# Altium schematic symbol library jlcpcb_2025_04_ferrites_extended_0805.schlib: 546 symbols (part 1 of 10)
Pins are listed as number, name and electrical type; pins without a type are passive.

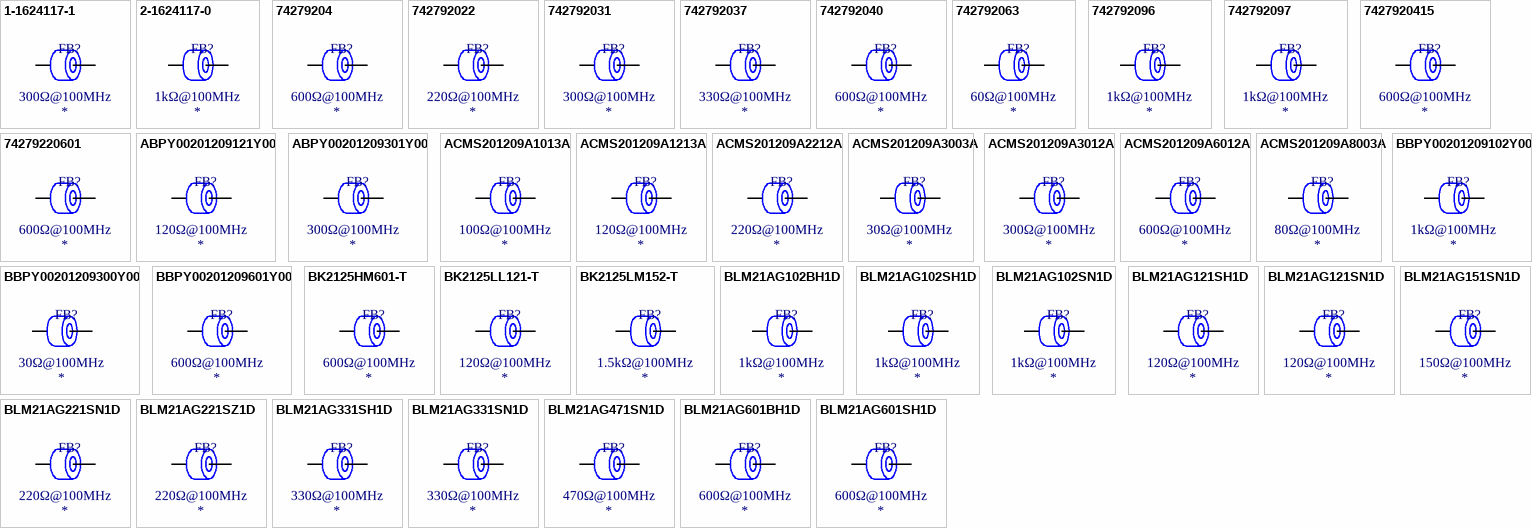
[diagram p0: symbols 1-1624117-1 to BLM21AG601SH1D]

## 1-1624117-1
designator FB?  Impedance @ Frequency: 300Ω@100MHz
Ferrite, 300Ω@100MHz, ±25%, 500mΩ, 250mA, SMD 0805; Manufacturer: TE Connectivity; Manufacturer Part Number: 1-1624117-1; Package Size: 0805; JLCPCB Basic Part: No; JLCPCB Part Number: C306293; Supplier 1: LCSC; Category: Ferrite Beads; Supplier Part Number 1: C306293; Tolerance: ±25%; Rated Current: 250mA; DC Resistance: 500mΩ; RoHS: Yes; ComponentLink1Description: Datasheet; ComponentLink1URL: https://wmsc.lcsc.com/wmsc/upload/file/pdf/v2/lcsc/2304140030_TE-Connectivity-1-1624117-1_C306293.pdf; ComponentLink2Description: JLCPCB Part URL; ComponentLink2URL: https://jlcpcb.com/partdetail/C306293; ComponentLink3Description: LCSC Part URL; ComponentLink3URL: https://lcsc.com/product-detail/Ferrite-Beads_TE-Connectivity-TE-Connectivity-1-1624117-1_C306293.html
footprint FB-0805 (0805 (2012M) Ferrite)
pins: 1, 2

## 2-1624117-0
designator FB?  Impedance @ Frequency: 1kΩ@100MHz
Ferrite, 1kΩ@100MHz, ±25%, 300mΩ, 350mA, SMD 0805; Manufacturer: TE Connectivity; Manufacturer Part Number: 2-1624117-0; Package Size: 0805; JLCPCB Basic Part: No; JLCPCB Part Number: C306134; Supplier 1: LCSC; Category: Ferrite Beads; Supplier Part Number 1: C306134; Tolerance: ±25%; Rated Current: 350mA; DC Resistance: 300mΩ; RoHS: Yes; ComponentLink1Description: Datasheet; ComponentLink1URL: https://wmsc.lcsc.com/wmsc/upload/file/pdf/v2/lcsc/1811071521_TE-Connectivity-2-1624117-0_C306134.pdf; ComponentLink2Description: JLCPCB Part URL; ComponentLink2URL: https://jlcpcb.com/partdetail/C306134; ComponentLink3Description: LCSC Part URL; ComponentLink3URL: https://lcsc.com/product-detail/Ferrite-Beads_TE-Connectivity-TE-Connectivity-2-1624117-0_C306134.html
footprint FB-0805 (0805 (2012M) Ferrite)
pins: 1, 2

## 74279204
designator FB?  Impedance @ Frequency: 600Ω@100MHz
Ferrite, 600Ω@100MHz, ±25%, 350mΩ, 1.5A, SMD 0805; Manufacturer: Wurth Elektronik; Manufacturer Part Number: 74279204; Package Size: 0805; JLCPCB Basic Part: No; JLCPCB Part Number: C2661772; Supplier 1: LCSC; Category: Ferrite Beads; Supplier Part Number 1: C2661772; Tolerance: ±25%; Rated Current: 1.5A; DC Resistance: 350mΩ; RoHS: Yes; ComponentLink1Description: Datasheet; ComponentLink1URL: https://wmsc.lcsc.com/wmsc/upload/file/pdf/v2/lcsc/2106071736_Wurth-Elektronik-74279204_C2661772.pdf; ComponentLink2Description: JLCPCB Part URL; ComponentLink2URL: https://jlcpcb.com/partdetail/C2661772; ComponentLink3Description: LCSC Part URL; ComponentLink3URL: https://lcsc.com/product-detail/Ferrite-Beads_Wurth-Elektronik-Wurth-Elektronik-74279204_C2661772.html
footprint FB-0805 (0805 (2012M) Ferrite)
pins: 1, 2

## 742792022
designator FB?  Impedance @ Frequency: 220Ω@100MHz
Ferrite, 220Ω@100MHz, ±25%, 50mΩ, 1.5A, SMD 0805; Manufacturer: Wurth Elektronik; Manufacturer Part Number: 742792022; Package Size: 0805; JLCPCB Basic Part: No; JLCPCB Part Number: C2661452; Supplier 1: LCSC; Category: Ferrite Beads; Supplier Part Number 1: C2661452; Tolerance: ±25%; Rated Current: 1.5A; DC Resistance: 50mΩ; RoHS: Yes; ComponentLink1Description: Datasheet; ComponentLink1URL: https://wmsc.lcsc.com/wmsc/upload/file/pdf/v2/lcsc/2106071807_Wurth-Elektronik-742792022_C2661452.pdf; ComponentLink2Description: JLCPCB Part URL; ComponentLink2URL: https://jlcpcb.com/partdetail/C2661452; ComponentLink3Description: LCSC Part URL; ComponentLink3URL: https://lcsc.com/product-detail/Ferrite-Beads_Wurth-Elektronik-Wurth-Elektronik-742792022_C2661452.html
footprint FB-0805 (0805 (2012M) Ferrite)
pins: 1, 2

## 742792031
designator FB?  Impedance @ Frequency: 300Ω@100MHz
Ferrite, 300Ω@100MHz, ±25%, 50mΩ, 3A, SMD 0805; Manufacturer: Wurth Elektronik; Manufacturer Part Number: 742792031; Package Size: 0805; JLCPCB Basic Part: No; JLCPCB Part Number: C2649313; Supplier 1: LCSC; Category: Ferrite Beads; Supplier Part Number 1: C2649313; Tolerance: ±25%; Rated Current: 3A; DC Resistance: 50mΩ; RoHS: Yes; ComponentLink1Description: Datasheet; ComponentLink1URL: https://wmsc.lcsc.com/wmsc/upload/file/pdf/v2/lcsc/2106080533_Wurth-Elektronik-742792031_C2649313.pdf; ComponentLink2Description: JLCPCB Part URL; ComponentLink2URL: https://jlcpcb.com/partdetail/C2649313; ComponentLink3Description: LCSC Part URL; ComponentLink3URL: https://lcsc.com/product-detail/Ferrite-Beads_Wurth-Elektronik-Wurth-Elektronik-742792031_C2649313.html
footprint FB-0805 (0805 (2012M) Ferrite)
pins: 1, 2

## 742792037
designator FB?  Impedance @ Frequency: 330Ω@100MHz
Ferrite, 330Ω@100MHz, ±25%, 80mΩ, 2A, SMD 0805; Manufacturer: Wurth Elektronik; Manufacturer Part Number: 742792037; Package Size: 0805; JLCPCB Basic Part: No; JLCPCB Part Number: C2661447; Supplier 1: LCSC; Category: Ferrite Beads; Supplier Part Number 1: C2661447; Tolerance: ±25%; Rated Current: 2A; DC Resistance: 80mΩ; RoHS: Yes; ComponentLink1Description: Datasheet; ComponentLink1URL: https://wmsc.lcsc.com/wmsc/upload/file/pdf/v2/lcsc/2106071807_Wurth-Elektronik-742792037_C2661447.pdf; ComponentLink2Description: JLCPCB Part URL; ComponentLink2URL: https://jlcpcb.com/partdetail/C2661447; ComponentLink3Description: LCSC Part URL; ComponentLink3URL: https://lcsc.com/product-detail/Ferrite-Beads_Wurth-Elektronik-Wurth-Elektronik-742792037_C2661447.html
footprint FB-0805 (0805 (2012M) Ferrite)
pins: 1, 2

## 742792040
designator FB?  Impedance @ Frequency: 600Ω@100MHz
Ferrite, 600Ω@100MHz, ±25%, 150mΩ, 2A, SMD 0805; Manufacturer: Wurth Elektronik; Manufacturer Part Number: 742792040; Package Size: 0805; JLCPCB Basic Part: No; JLCPCB Part Number: C2661857; Supplier 1: LCSC; Category: Ferrite Beads; Supplier Part Number 1: C2661857; Tolerance: ±25%; Rated Current: 2A; DC Resistance: 150mΩ; RoHS: Yes; ComponentLink1Description: Datasheet; ComponentLink1URL: https://wmsc.lcsc.com/wmsc/upload/file/pdf/v2/lcsc/2106071736_Wurth-Elektronik-742792040_C2661857.pdf; ComponentLink2Description: JLCPCB Part URL; ComponentLink2URL: https://jlcpcb.com/partdetail/C2661857; ComponentLink3Description: LCSC Part URL; ComponentLink3URL: https://lcsc.com/product-detail/Ferrite-Beads_Wurth-Elektronik-Wurth-Elektronik-742792040_C2661857.html
footprint FB-0805 (0805 (2012M) Ferrite)
pins: 1, 2

## 742792063
designator FB?  Impedance @ Frequency: 60Ω@100MHz
Ferrite, 60Ω@100MHz, ±25%, 25mΩ, 3A, SMD 0805; Manufacturer: Wurth Elektronik; Manufacturer Part Number: 742792063; Package Size: 0805; JLCPCB Basic Part: No; JLCPCB Part Number: C2661451; Supplier 1: LCSC; Category: Ferrite Beads; Supplier Part Number 1: C2661451; Tolerance: ±25%; Rated Current: 3A; DC Resistance: 25mΩ; RoHS: Yes; ComponentLink1Description: Datasheet; ComponentLink1URL: https://wmsc.lcsc.com/wmsc/upload/file/pdf/v2/lcsc/2106071807_Wurth-Elektronik-742792063_C2661451.pdf; ComponentLink2Description: JLCPCB Part URL; ComponentLink2URL: https://jlcpcb.com/partdetail/C2661451; ComponentLink3Description: LCSC Part URL; ComponentLink3URL: https://lcsc.com/product-detail/Ferrite-Beads_Wurth-Elektronik-Wurth-Elektronik-742792063_C2661451.html
footprint FB-0805 (0805 (2012M) Ferrite)
pins: 1, 2

## 742792096
designator FB?  Impedance @ Frequency: 1kΩ@100MHz
Ferrite, 1kΩ@100MHz, ±25%, 300mΩ, 1A, SMD 0805; Manufacturer: Wurth Elektronik; Manufacturer Part Number: 742792096; Package Size: 0805; JLCPCB Basic Part: No; JLCPCB Part Number: C2661448; Supplier 1: LCSC; Category: Ferrite Beads; Supplier Part Number 1: C2661448; Tolerance: ±25%; Rated Current: 1A; DC Resistance: 300mΩ; RoHS: Yes; ComponentLink1Description: Datasheet; ComponentLink1URL: https://wmsc.lcsc.com/wmsc/upload/file/pdf/v2/lcsc/2202131730_Wurth-Elektronik-742792096_C2661448.pdf; ComponentLink2Description: JLCPCB Part URL; ComponentLink2URL: https://jlcpcb.com/partdetail/C2661448; ComponentLink3Description: LCSC Part URL; ComponentLink3URL: https://lcsc.com/product-detail/Ferrite-Beads_Wurth-Elektronik-Wurth-Elektronik-742792096_C2661448.html
footprint FB-0805 (0805 (2012M) Ferrite)
pins: 1, 2

## 742792097
designator FB?  Impedance @ Frequency: 1kΩ@100MHz
Ferrite, 1kΩ@100MHz, ±25%, 300mΩ, 1A, SMD 0805; Manufacturer: Wurth Elektronik; Manufacturer Part Number: 742792097; Package Size: 0805; JLCPCB Basic Part: No; JLCPCB Part Number: C2649312; Supplier 1: LCSC; Category: Ferrite Beads; Supplier Part Number 1: C2649312; Tolerance: ±25%; Rated Current: 1A; DC Resistance: 300mΩ; RoHS: Yes; ComponentLink1Description: Datasheet; ComponentLink1URL: https://wmsc.lcsc.com/wmsc/upload/file/pdf/v2/lcsc/2108070630_Wurth-Elektronik-742792097_C2649312.pdf; ComponentLink2Description: JLCPCB Part URL; ComponentLink2URL: https://jlcpcb.com/partdetail/C2649312; ComponentLink3Description: LCSC Part URL; ComponentLink3URL: https://lcsc.com/product-detail/Ferrite-Beads_Wurth-Elektronik-Wurth-Elektronik-742792097_C2649312.html
footprint FB-0805 (0805 (2012M) Ferrite)
pins: 1, 2

## 7427920415
designator FB?  Impedance @ Frequency: 600Ω@100MHz
Ferrite, 600Ω@100MHz, 300mΩ, SMD 0805; Manufacturer: Wurth Elektronik; Manufacturer Part Number: 7427920415; Package Size: 0805; JLCPCB Basic Part: No; JLCPCB Part Number: C5523406; Supplier 1: LCSC; Category: Ferrite Beads; Supplier Part Number 1: C5523406; DC Resistance: 300mΩ; RoHS: Yes; ComponentLink1Description: Datasheet; ComponentLink1URL: https://wmsc.lcsc.com/wmsc/upload/file/pdf/v2/lcsc/2306121443_Wurth-Elektronik-7427920415_C5523406.pdf; ComponentLink2Description: JLCPCB Part URL; ComponentLink2URL: https://jlcpcb.com/partdetail/C5523406; ComponentLink3Description: LCSC Part URL; ComponentLink3URL: https://lcsc.com/product-detail/Ferrite-Beads_Wurth-Elektronik-Wurth-Elektronik-7427920415_C5523406.html
pins: 1, 2

## 74279220601
designator FB?  Impedance @ Frequency: 600Ω@100MHz
Ferrite, 600Ω@100MHz, ±25%, 80mΩ, 2.1A, SMD 0805; Manufacturer: Wurth Elektronik; Manufacturer Part Number: 74279220601; Package Size: 0805; JLCPCB Basic Part: No; JLCPCB Part Number: C2661425; Supplier 1: LCSC; Category: Ferrite Beads; Supplier Part Number 1: C2661425; Tolerance: ±25%; Rated Current: 2.1A; DC Resistance: 80mΩ; RoHS: Yes; ComponentLink1Description: Datasheet; ComponentLink1URL: https://wmsc.lcsc.com/wmsc/upload/file/pdf/v2/lcsc/2106071807_Wurth-Elektronik-74279220601_C2661425.pdf; ComponentLink2Description: JLCPCB Part URL; ComponentLink2URL: https://jlcpcb.com/partdetail/C2661425; ComponentLink3Description: LCSC Part URL; ComponentLink3URL: https://lcsc.com/product-detail/Ferrite-Beads_Wurth-Elektronik-Wurth-Elektronik-74279220601_C2661425.html
footprint FB-0805 (0805 (2012M) Ferrite)
pins: 1, 2

## ABPY00201209121Y00
designator FB?  Impedance @ Frequency: 120Ω@100MHz
Ferrite, 120Ω@100MHz, 40mΩ, SMD 0805; Manufacturer: Chilisin Elec; Manufacturer Part Number: ABPY00201209121Y00; Package Size: 0805; JLCPCB Basic Part: No; JLCPCB Part Number: C5346604; Supplier 1: LCSC; Category: Ferrite Beads; Supplier Part Number 1: C5346604; DC Resistance: 40mΩ; RoHS: Yes; ComponentLink1Description: Datasheet; ComponentLink1URL: https://wmsc.lcsc.com/wmsc/upload/file/pdf/v2/lcsc/2301120930_Chilisin-Elec-ABPY00201209121Y00_C5346604.pdf; ComponentLink2Description: JLCPCB Part URL; ComponentLink2URL: https://jlcpcb.com/partdetail/C5346604; ComponentLink3Description: LCSC Part URL; ComponentLink3URL: https://lcsc.com/product-detail/Ferrite-Beads_Chilisin-Elec-Chilisin-Elec-ABPY00201209121Y00_C5346604.html
pins: 1, 2

## ABPY00201209301Y00
designator FB?  Impedance @ Frequency: 300Ω@100MHz
Ferrite, 300Ω@100MHz, 80mΩ, SMD 0805; Manufacturer: Chilisin Elec; Manufacturer Part Number: ABPY00201209301Y00; Package Size: 0805; JLCPCB Basic Part: No; JLCPCB Part Number: C7209781; Supplier 1: LCSC; Category: Ferrite Beads; Supplier Part Number 1: C7209781; DC Resistance: 80mΩ; RoHS: Yes; ComponentLink1Description: Datasheet; ComponentLink1URL: https://wmsc.lcsc.com/wmsc/upload/file/pdf/v2/lcsc/2312271912_Chilisin-Elec-ABPY00201209301Y00_C7209781.pdf; ComponentLink2Description: JLCPCB Part URL; ComponentLink2URL: https://jlcpcb.com/partdetail/C7209781; ComponentLink3Description: LCSC Part URL; ComponentLink3URL: https://lcsc.com/product-detail/Ferrite-Beads_Chilisin-Elec-Chilisin-Elec-ABPY00201209301Y00_C7209781.html
pins: 1, 2

## ACMS201209A1013A
designator FB?  Impedance @ Frequency: 100Ω@100MHz
Ferrite, 100Ω@100MHz, ±25%, 40mΩ, 3A, SMD 0805; Manufacturer: HYHONGYEX; Manufacturer Part Number: ACMS201209A1013A; Package Size: 0805; JLCPCB Basic Part: No; JLCPCB Part Number: C963874; Supplier 1: LCSC; Category: Ferrite Beads; Supplier Part Number 1: C963874; Tolerance: ±25%; Rated Current: 3A; DC Resistance: 40mΩ; RoHS: Yes; ComponentLink1Description: Datasheet; ComponentLink1URL: https://wmsc.lcsc.com/wmsc/upload/file/pdf/v2/lcsc/2012171840_HYHONGYEX-ACMS201209A1013A_C963874.pdf; ComponentLink2Description: JLCPCB Part URL; ComponentLink2URL: https://jlcpcb.com/partdetail/C963874; ComponentLink3Description: LCSC Part URL; ComponentLink3URL: https://lcsc.com/product-detail/Ferrite-Beads_HYHONGYEX-HYHONGYEX-ACMS201209A1013A_C963874.html
footprint FB-0805 (0805 (2012M) Ferrite)
pins: 1, 2

## ACMS201209A1213A
designator FB?  Impedance @ Frequency: 120Ω@100MHz
Ferrite, 120Ω@100MHz, ±25%, 40mΩ, 3A, SMD 0805; Manufacturer: HYHONGYEX; Manufacturer Part Number: ACMS201209A1213A; Package Size: 0805; JLCPCB Basic Part: No; JLCPCB Part Number: C963875; Supplier 1: LCSC; Category: Ferrite Beads; Supplier Part Number 1: C963875; Tolerance: ±25%; Rated Current: 3A; DC Resistance: 40mΩ; RoHS: Yes; ComponentLink1Description: Datasheet; ComponentLink1URL: https://wmsc.lcsc.com/wmsc/upload/file/pdf/v2/lcsc/2012171840_HYHONGYEX-ACMS201209A1213A_C963875.pdf; ComponentLink2Description: JLCPCB Part URL; ComponentLink2URL: https://jlcpcb.com/partdetail/C963875; ComponentLink3Description: LCSC Part URL; ComponentLink3URL: https://lcsc.com/product-detail/Ferrite-Beads_HYHONGYEX-HYHONGYEX-ACMS201209A1213A_C963875.html
footprint FB-0805 (0805 (2012M) Ferrite)
pins: 1, 2

## ACMS201209A2212A
designator FB?  Impedance @ Frequency: 220Ω@100MHz
Ferrite, 220Ω@100MHz, ±25%, 100mΩ, 2A, SMD 0805; Manufacturer: HYHONGYEX; Manufacturer Part Number: ACMS201209A2212A; Package Size: 0805; JLCPCB Basic Part: No; JLCPCB Part Number: C963876; Supplier 1: LCSC; Category: Ferrite Beads; Supplier Part Number 1: C963876; Tolerance: ±25%; Rated Current: 2A; DC Resistance: 100mΩ; RoHS: Yes; ComponentLink1Description: Datasheet; ComponentLink1URL: https://wmsc.lcsc.com/wmsc/upload/file/pdf/v2/lcsc/2012171840_HYHONGYEX-ACMS201209A2212A_C963876.pdf; ComponentLink2Description: JLCPCB Part URL; ComponentLink2URL: https://jlcpcb.com/partdetail/C963876; ComponentLink3Description: LCSC Part URL; ComponentLink3URL: https://lcsc.com/product-detail/Ferrite-Beads_HYHONGYEX-HYHONGYEX-ACMS201209A2212A_C963876.html
footprint FB-0805 (0805 (2012M) Ferrite)
pins: 1, 2

## ACMS201209A3003A
designator FB?  Impedance @ Frequency: 30Ω@100MHz
Ferrite, 30Ω@100MHz, ±25%, 40mΩ, 3A, SMD 0805; Manufacturer: HYHONGYEX; Manufacturer Part Number: ACMS201209A3003A; Package Size: 0805; JLCPCB Basic Part: No; JLCPCB Part Number: C963870; Supplier 1: LCSC; Category: Ferrite Beads; Supplier Part Number 1: C963870; Tolerance: ±25%; Rated Current: 3A; DC Resistance: 40mΩ; RoHS: Yes; ComponentLink1Description: Datasheet; ComponentLink1URL: https://wmsc.lcsc.com/wmsc/upload/file/pdf/v2/lcsc/2012171840_HYHONGYEX-ACMS201209A3003A_C963870.pdf; ComponentLink2Description: JLCPCB Part URL; ComponentLink2URL: https://jlcpcb.com/partdetail/C963870; ComponentLink3Description: LCSC Part URL; ComponentLink3URL: https://lcsc.com/product-detail/Ferrite-Beads_HYHONGYEX-HYHONGYEX-ACMS201209A3003A_C963870.html
footprint FB-0805 (0805 (2012M) Ferrite)
pins: 1, 2

## ACMS201209A3012A
designator FB?  Impedance @ Frequency: 300Ω@100MHz
Ferrite, 300Ω@100MHz, ±25%, 100mΩ, 2A, SMD 0805; Manufacturer: HYHONGYEX; Manufacturer Part Number: ACMS201209A3012A; Package Size: 0805; JLCPCB Basic Part: No; JLCPCB Part Number: C963877; Supplier 1: LCSC; Category: Ferrite Beads; Supplier Part Number 1: C963877; Tolerance: ±25%; Rated Current: 2A; DC Resistance: 100mΩ; RoHS: Yes; ComponentLink1Description: Datasheet; ComponentLink1URL: https://wmsc.lcsc.com/wmsc/upload/file/pdf/v2/lcsc/2012171840_HYHONGYEX-ACMS201209A3012A_C963877.pdf; ComponentLink2Description: JLCPCB Part URL; ComponentLink2URL: https://jlcpcb.com/partdetail/C963877; ComponentLink3Description: LCSC Part URL; ComponentLink3URL: https://lcsc.com/product-detail/Ferrite-Beads_HYHONGYEX-HYHONGYEX-ACMS201209A3012A_C963877.html
footprint FB-0805 (0805 (2012M) Ferrite)
pins: 1, 2

## ACMS201209A6012A
designator FB?  Impedance @ Frequency: 600Ω@100MHz
Ferrite, 600Ω@100MHz, ±25%, 100mΩ, 2A, SMD 0805; Manufacturer: HYHONGYEX; Manufacturer Part Number: ACMS201209A6012A; Package Size: 0805; JLCPCB Basic Part: No; JLCPCB Part Number: C963878; Supplier 1: LCSC; Category: Ferrite Beads; Supplier Part Number 1: C963878; Tolerance: ±25%; Rated Current: 2A; DC Resistance: 100mΩ; RoHS: Yes; ComponentLink1Description: Datasheet; ComponentLink1URL: https://wmsc.lcsc.com/wmsc/upload/file/pdf/v2/lcsc/2012171840_HYHONGYEX-ACMS201209A6012A_C963878.pdf; ComponentLink2Description: JLCPCB Part URL; ComponentLink2URL: https://jlcpcb.com/partdetail/C963878; ComponentLink3Description: LCSC Part URL; ComponentLink3URL: https://lcsc.com/product-detail/Ferrite-Beads_HYHONGYEX-HYHONGYEX-ACMS201209A6012A_C963878.html
footprint FB-0805 (0805 (2012M) Ferrite)
pins: 1, 2

## ACMS201209A8003A
designator FB?  Impedance @ Frequency: 80Ω@100MHz
Ferrite, 80Ω@100MHz, ±25%, 40mΩ, 3A, SMD 0805; Manufacturer: HYHONGYEX; Manufacturer Part Number: ACMS201209A8003A; Package Size: 0805; JLCPCB Basic Part: No; JLCPCB Part Number: C963873; Supplier 1: LCSC; Category: Ferrite Beads; Supplier Part Number 1: C963873; Tolerance: ±25%; Rated Current: 3A; DC Resistance: 40mΩ; RoHS: Yes; ComponentLink1Description: Datasheet; ComponentLink1URL: https://wmsc.lcsc.com/wmsc/upload/file/pdf/v2/lcsc/2012171840_HYHONGYEX-ACMS201209A8003A_C963873.pdf; ComponentLink2Description: JLCPCB Part URL; ComponentLink2URL: https://jlcpcb.com/partdetail/C963873; ComponentLink3Description: LCSC Part URL; ComponentLink3URL: https://lcsc.com/product-detail/Ferrite-Beads_HYHONGYEX-HYHONGYEX-ACMS201209A8003A_C963873.html
footprint FB-0805 (0805 (2012M) Ferrite)
pins: 1, 2

## BBPY00201209102Y00
designator FB?  Impedance @ Frequency: 1kΩ@100MHz
Ferrite, 1kΩ@100MHz, ±25%, 0.12Ω, 1.5A, SMD 0805; Manufacturer: Chilisin Elec; Manufacturer Part Number: BBPY00201209102Y00; Package Size: 0805; JLCPCB Basic Part: No; JLCPCB Part Number: C2935063; Supplier 1: LCSC; Category: Ferrite Beads; Supplier Part Number 1: C2935063; Tolerance: ±25%; Rated Current: 1.5A; DC Resistance: 0.12Ω; RoHS: Yes; ComponentLink1Description: Datasheet; ComponentLink1URL: https://wmsc.lcsc.com/wmsc/upload/file/pdf/v2/lcsc/2201121700_Chilisin-Elec-BBPY00201209102Y00_C2935063.pdf; ComponentLink2Description: JLCPCB Part URL; ComponentLink2URL: https://jlcpcb.com/partdetail/C2935063; ComponentLink3Description: LCSC Part URL; ComponentLink3URL: https://lcsc.com/product-detail/Ferrite-Beads_Chilisin-Elec-Chilisin-Elec-BBPY00201209102Y00_C2935063.html
footprint FB-0805 (0805 (2012M) Ferrite)
pins: 1, 2

## BBPY00201209300Y00
designator FB?  Impedance @ Frequency: 30Ω@100MHz
Ferrite, 30Ω@100MHz, ±25%, 0.015Ω, 4A, SMD 0805; Manufacturer: Chilisin Elec; Manufacturer Part Number: BBPY00201209300Y00; Package Size: 0805; JLCPCB Basic Part: No; JLCPCB Part Number: C2847084; Supplier 1: LCSC; Category: Ferrite Beads; Supplier Part Number 1: C2847084; Tolerance: ±25%; Rated Current: 4A; DC Resistance: 0.015Ω; RoHS: Yes; ComponentLink1Description: Datasheet; ComponentLink1URL: https://wmsc.lcsc.com/wmsc/upload/file/pdf/v2/lcsc/2111111830_Chilisin-Elec-BBPY00201209300Y00_C2847084.pdf; ComponentLink2Description: JLCPCB Part URL; ComponentLink2URL: https://jlcpcb.com/partdetail/C2847084; ComponentLink3Description: LCSC Part URL; ComponentLink3URL: https://lcsc.com/product-detail/Ferrite-Beads_Chilisin-Elec-Chilisin-Elec-BBPY00201209300Y00_C2847084.html
footprint FB-0805 (0805 (2012M) Ferrite)
pins: 1, 2

## BBPY00201209601Y00
designator FB?  Impedance @ Frequency: 600Ω@100MHz
Ferrite, 600Ω@100MHz, ±25%, 100mΩ, 2A, SMD 0805; Manufacturer: Chilisin Elec; Manufacturer Part Number: BBPY00201209601Y00; Package Size: 0805; JLCPCB Basic Part: No; JLCPCB Part Number: C5555999; Supplier 1: LCSC; Category: Ferrite Beads; Supplier Part Number 1: C5555999; Tolerance: ±25%; Rated Current: 2A; DC Resistance: 100mΩ; RoHS: Yes; ComponentLink1Description: Datasheet; ComponentLink1URL: https://wmsc.lcsc.com/wmsc/upload/file/pdf/v2/lcsc/2304251418_Chilisin-Elec-BBPY00201209601Y00_C5555999.pdf; ComponentLink2Description: JLCPCB Part URL; ComponentLink2URL: https://jlcpcb.com/partdetail/C5555999; ComponentLink3Description: LCSC Part URL; ComponentLink3URL: https://lcsc.com/product-detail/Ferrite-Beads_Chilisin-Elec-Chilisin-Elec-BBPY00201209601Y00_C5555999.html
footprint FB-0805 (0805 (2012M) Ferrite)
pins: 1, 2

## BK2125HM601-T
designator FB?  Impedance @ Frequency: 600Ω@100MHz
Ferrite, 600Ω@100MHz, ±25%, 250mΩ, 500mA, SMD 0805; Manufacturer: Taiyo Yuden; Manufacturer Part Number: BK2125HM601-T; Package Size: 0805; JLCPCB Basic Part: No; JLCPCB Part Number: C90339; Supplier 1: LCSC; Category: Ferrite Beads; Supplier Part Number 1: C90339; Tolerance: ±25%; Rated Current: 500mA; DC Resistance: 250mΩ; RoHS: Yes; ComponentLink1Description: Datasheet; ComponentLink1URL: https://wmsc.lcsc.com/wmsc/upload/file/pdf/v2/lcsc/2211282300_Taiyo-Yuden-BK2125HM601-T_C90339.pdf; ComponentLink2Description: JLCPCB Part URL; ComponentLink2URL: https://jlcpcb.com/partdetail/C90339; ComponentLink3Description: LCSC Part URL; ComponentLink3URL: https://lcsc.com/product-detail/Ferrite-Beads_Taiyo-Yuden-Taiyo-Yuden-BK2125HM601-T_C90339.html
footprint FB-0805 (0805 (2012M) Ferrite)
pins: 1, 2

## BK2125LL121-T
designator FB?  Impedance @ Frequency: 120Ω@100MHz
Ferrite, 120Ω@100MHz, ±25%, 300mΩ, 400mA, SMD 0805; Manufacturer: Taiyo Yuden; Manufacturer Part Number: BK2125LL121-T; Package Size: 0805; JLCPCB Basic Part: No; JLCPCB Part Number: C92872; Supplier 1: LCSC; Category: Ferrite Beads; Supplier Part Number 1: C92872; Tolerance: ±25%; Rated Current: 400mA; DC Resistance: 300mΩ; RoHS: Yes; ComponentLink1Description: Datasheet; ComponentLink1URL: https://wmsc.lcsc.com/wmsc/upload/file/pdf/v2/lcsc/2211282300_Taiyo-Yuden-BK2125LL121-T_C92872.pdf; ComponentLink2Description: JLCPCB Part URL; ComponentLink2URL: https://jlcpcb.com/partdetail/C92872; ComponentLink3Description: LCSC Part URL; ComponentLink3URL: https://lcsc.com/product-detail/Ferrite-Beads_Taiyo-Yuden-Taiyo-Yuden-BK2125LL121-T_C92872.html
footprint FB-0805 (0805 (2012M) Ferrite)
pins: 1, 2

## BK2125LM152-T
designator FB?  Impedance @ Frequency: 1.5kΩ@100MHz
Ferrite, 1.5kΩ@100MHz, 350mΩ, SMD 0805; Manufacturer: Taiyo Yuden; Manufacturer Part Number: BK2125LM152-T; Package Size: 0805; JLCPCB Basic Part: No; JLCPCB Part Number: C524969; Supplier 1: LCSC; Category: Ferrite Beads; Supplier Part Number 1: C524969; DC Resistance: 350mΩ; RoHS: Yes; ComponentLink1Description: Datasheet; ComponentLink1URL: https://wmsc.lcsc.com/wmsc/upload/file/pdf/v2/lcsc/2211282200_Taiyo-Yuden-BK2125LM152-T_C524969.pdf; ComponentLink2Description: JLCPCB Part URL; ComponentLink2URL: https://jlcpcb.com/partdetail/C524969; ComponentLink3Description: LCSC Part URL; ComponentLink3URL: https://lcsc.com/product-detail/Ferrite-Beads_Taiyo-Yuden-Taiyo-Yuden-BK2125LM152-T_C524969.html
pins: 1, 2

## BLM21AG102BH1D
designator FB?  Impedance @ Frequency: 1kΩ@100MHz
Ferrite, 1kΩ@100MHz, ±25%, 270mΩ, 600mA, SMD 0805; Manufacturer: Murata Electronics; Manufacturer Part Number: BLM21AG102BH1D; Package Size: 0805; JLCPCB Basic Part: No; JLCPCB Part Number: C710395; Supplier 1: LCSC; Category: Ferrite Beads; Supplier Part Number 1: C710395; Tolerance: ±25%; Rated Current: 600mA; DC Resistance: 270mΩ; RoHS: Yes; ComponentLink1Description: Datasheet; ComponentLink1URL: https://wmsc.lcsc.com/wmsc/upload/file/pdf/v2/lcsc/2304140030_Murata-Electronics-BLM21AG102BH1D_C710395.pdf; ComponentLink2Description: JLCPCB Part URL; ComponentLink2URL: https://jlcpcb.com/partdetail/C710395; ComponentLink3Description: LCSC Part URL; ComponentLink3URL: https://lcsc.com/product-detail/Ferrite-Beads_Murata-Electronics-Murata-Electronics-BLM21AG102BH1D_C710395.html
footprint FB-0805 (0805 (2012M) Ferrite)
pins: 1, 2

## BLM21AG102SH1D
designator FB?  Impedance @ Frequency: 1kΩ@100MHz
Ferrite, 1kΩ@100MHz, ±25%, 270mΩ, 600mA, SMD 0805; Manufacturer: Murata Electronics; Manufacturer Part Number: BLM21AG102SH1D; Package Size: 0805; JLCPCB Basic Part: No; JLCPCB Part Number: C337882; Supplier 1: LCSC; Category: Ferrite Beads; Supplier Part Number 1: C337882; Tolerance: ±25%; Rated Current: 600mA; DC Resistance: 270mΩ; RoHS: Yes; ComponentLink1Description: Datasheet; ComponentLink1URL: https://wmsc.lcsc.com/wmsc/upload/file/pdf/v2/lcsc/2304140030_Murata-Electronics-BLM21AG102SH1D_C337882.pdf; ComponentLink2Description: JLCPCB Part URL; ComponentLink2URL: https://jlcpcb.com/partdetail/C337882; ComponentLink3Description: LCSC Part URL; ComponentLink3URL: https://lcsc.com/product-detail/Ferrite-Beads_Murata-Electronics-Murata-Electronics-BLM21AG102SH1D_C337882.html
footprint FB-0805 (0805 (2012M) Ferrite)
pins: 1, 2

## BLM21AG102SN1D
designator FB?  Impedance @ Frequency: 1kΩ@100MHz
Ferrite, 1kΩ@100MHz, ±25%, 270mΩ, 600mA, SMD 0805; Manufacturer: Murata Electronics; Manufacturer Part Number: BLM21AG102SN1D; Package Size: 0805; JLCPCB Basic Part: No; JLCPCB Part Number: C85835; Supplier 1: LCSC; Category: Ferrite Beads; Supplier Part Number 1: C85835; Tolerance: ±25%; Rated Current: 600mA; DC Resistance: 270mΩ; RoHS: Yes; ComponentLink1Description: Datasheet; ComponentLink1URL: https://wmsc.lcsc.com/wmsc/upload/file/pdf/v2/lcsc/2304140030_Murata-Electronics-BLM21AG102SN1D_C85835.pdf; ComponentLink2Description: JLCPCB Part URL; ComponentLink2URL: https://jlcpcb.com/partdetail/C85835; ComponentLink3Description: LCSC Part URL; ComponentLink3URL: https://lcsc.com/product-detail/Ferrite-Beads_Murata-Electronics-Murata-Electronics-BLM21AG102SN1D_C85835.html
footprint FB-0805 (0805 (2012M) Ferrite)
pins: 1, 2

## BLM21AG121SH1D
designator FB?  Impedance @ Frequency: 120Ω@100MHz
Ferrite, 120Ω@100MHz, ±25%, 100mΩ, 1A, SMD 0805; Manufacturer: Murata Electronics; Manufacturer Part Number: BLM21AG121SH1D; Package Size: 0805; JLCPCB Basic Part: No; JLCPCB Part Number: C710398; Supplier 1: LCSC; Category: Ferrite Beads; Supplier Part Number 1: C710398; Tolerance: ±25%; Rated Current: 1A; DC Resistance: 100mΩ; RoHS: Yes; ComponentLink1Description: Datasheet; ComponentLink1URL: https://wmsc.lcsc.com/wmsc/upload/file/pdf/v2/lcsc/2304140030_Murata-Electronics-BLM21AG121SH1D_C710398.pdf; ComponentLink2Description: JLCPCB Part URL; ComponentLink2URL: https://jlcpcb.com/partdetail/C710398; ComponentLink3Description: LCSC Part URL; ComponentLink3URL: https://lcsc.com/product-detail/Ferrite-Beads_Murata-Electronics-Murata-Electronics-BLM21AG121SH1D_C710398.html
footprint FB-0805 (0805 (2012M) Ferrite)
pins: 1, 2

## BLM21AG121SN1D
designator FB?  Impedance @ Frequency: 120Ω@100MHz
Ferrite, 120Ω@100MHz, ±25%, 90mΩ, 1A, SMD 0805; Manufacturer: Murata Electronics; Manufacturer Part Number: BLM21AG121SN1D; Package Size: 0805; JLCPCB Basic Part: No; JLCPCB Part Number: C88990; Supplier 1: LCSC; Category: Ferrite Beads; Supplier Part Number 1: C88990; Tolerance: ±25%; Rated Current: 1A; DC Resistance: 90mΩ; RoHS: Yes; ComponentLink1Description: Datasheet; ComponentLink1URL: https://wmsc.lcsc.com/wmsc/upload/file/pdf/v2/lcsc/2304140030_Murata-Electronics-BLM21AG121SN1D_C88990.pdf; ComponentLink2Description: JLCPCB Part URL; ComponentLink2URL: https://jlcpcb.com/partdetail/C88990; ComponentLink3Description: LCSC Part URL; ComponentLink3URL: https://lcsc.com/product-detail/Ferrite-Beads_Murata-Electronics-Murata-Electronics-BLM21AG121SN1D_C88990.html
footprint FB-0805 (0805 (2012M) Ferrite)
pins: 1, 2

## BLM21AG151SN1D
designator FB?  Impedance @ Frequency: 150Ω@100MHz
Ferrite, 150Ω@100MHz, ±25%, 90mΩ, 1A, SMD 0805; Manufacturer: Murata Electronics; Manufacturer Part Number: BLM21AG151SN1D; Package Size: 0805; JLCPCB Basic Part: No; JLCPCB Part Number: C85836; Supplier 1: LCSC; Category: Ferrite Beads; Supplier Part Number 1: C85836; Tolerance: ±25%; Rated Current: 1A; DC Resistance: 90mΩ; RoHS: Yes; ComponentLink1Description: Datasheet; ComponentLink1URL: https://wmsc.lcsc.com/wmsc/upload/file/pdf/v2/lcsc/2304140030_Murata-Electronics-BLM21AG151SN1D_C85836.pdf; ComponentLink2Description: JLCPCB Part URL; ComponentLink2URL: https://jlcpcb.com/partdetail/C85836; ComponentLink3Description: LCSC Part URL; ComponentLink3URL: https://lcsc.com/product-detail/Ferrite-Beads_Murata-Electronics-Murata-Electronics-BLM21AG151SN1D_C85836.html
footprint FB-0805 (0805 (2012M) Ferrite)
pins: 1, 2

## BLM21AG221SN1D
designator FB?  Impedance @ Frequency: 220Ω@100MHz
Ferrite, 220Ω@100MHz, ±25%, 120mΩ, 900mA, SMD 0805; Manufacturer: Murata Electronics; Manufacturer Part Number: BLM21AG221SN1D; Package Size: 0805; JLCPCB Basic Part: No; JLCPCB Part Number: C88991; Supplier 1: LCSC; Category: Ferrite Beads; Supplier Part Number 1: C88991; Tolerance: ±25%; Rated Current: 900mA; DC Resistance: 120mΩ; RoHS: Yes; ComponentLink1Description: Datasheet; ComponentLink1URL: https://wmsc.lcsc.com/wmsc/upload/file/pdf/v2/lcsc/2304140030_Murata-Electronics-BLM21AG221SN1D_C88991.pdf; ComponentLink2Description: JLCPCB Part URL; ComponentLink2URL: https://jlcpcb.com/partdetail/C88991; ComponentLink3Description: LCSC Part URL; ComponentLink3URL: https://lcsc.com/product-detail/Ferrite-Beads_Murata-Electronics-Murata-Electronics-BLM21AG221SN1D_C88991.html
footprint FB-0805 (0805 (2012M) Ferrite)
pins: 1, 2

## BLM21AG221SZ1D
designator FB?  Impedance @ Frequency: 220Ω@100MHz
Ferrite, 220Ω@100MHz, ±25%, 120mΩ, 900mA, SMD 0805; Manufacturer: Murata Electronics; Manufacturer Part Number: BLM21AG221SZ1D; Package Size: 0805; JLCPCB Basic Part: No; JLCPCB Part Number: C710501; Supplier 1: LCSC; Category: Ferrite Beads; Supplier Part Number 1: C710501; Tolerance: ±25%; Rated Current: 900mA; DC Resistance: 120mΩ; RoHS: Yes; ComponentLink1Description: Datasheet; ComponentLink1URL: https://wmsc.lcsc.com/wmsc/upload/file/pdf/v2/lcsc/2304140030_Murata-Electronics-BLM21AG221SZ1D_C710501.pdf; ComponentLink2Description: JLCPCB Part URL; ComponentLink2URL: https://jlcpcb.com/partdetail/C710501; ComponentLink3Description: LCSC Part URL; ComponentLink3URL: https://lcsc.com/product-detail/Ferrite-Beads_Murata-Electronics-Murata-Electronics-BLM21AG221SZ1D_C710501.html
footprint FB-0805 (0805 (2012M) Ferrite)
pins: 1, 2

## BLM21AG331SH1D
designator FB?  Impedance @ Frequency: 330Ω@100MHz
Ferrite, 330Ω@100MHz, ±25%, 150mΩ, 800mA, SMD 0805; Manufacturer: Murata Electronics; Manufacturer Part Number: BLM21AG331SH1D; Package Size: 0805; JLCPCB Basic Part: No; JLCPCB Part Number: C426644; Supplier 1: LCSC; Category: Ferrite Beads; Supplier Part Number 1: C426644; Tolerance: ±25%; Rated Current: 800mA; DC Resistance: 150mΩ; RoHS: Yes; ComponentLink1Description: Datasheet; ComponentLink1URL: https://wmsc.lcsc.com/wmsc/upload/file/pdf/v2/lcsc/1912111437_Murata-Electronics-BLM21AG331SH1D_C426644.pdf; ComponentLink2Description: JLCPCB Part URL; ComponentLink2URL: https://jlcpcb.com/partdetail/C426644; ComponentLink3Description: LCSC Part URL; ComponentLink3URL: https://lcsc.com/product-detail/Ferrite-Beads_Murata-Electronics-Murata-Electronics-BLM21AG331SH1D_C426644.html
footprint FB-0805 (0805 (2012M) Ferrite)
pins: 1, 2

## BLM21AG331SN1D
designator FB?  Impedance @ Frequency: 330Ω@100MHz
Ferrite, 330Ω@100MHz, ±25%, 150mΩ, 800mA, SMD 0805; Manufacturer: Murata Electronics; Manufacturer Part Number: BLM21AG331SN1D; Package Size: 0805; JLCPCB Basic Part: No; JLCPCB Part Number: C88992; Supplier 1: LCSC; Category: Ferrite Beads; Supplier Part Number 1: C88992; Tolerance: ±25%; Rated Current: 800mA; DC Resistance: 150mΩ; RoHS: Yes; ComponentLink1Description: Datasheet; ComponentLink1URL: https://wmsc.lcsc.com/wmsc/upload/file/pdf/v2/lcsc/2304140030_Murata-Electronics-BLM21AG331SN1D_C88992.pdf; ComponentLink2Description: JLCPCB Part URL; ComponentLink2URL: https://jlcpcb.com/partdetail/C88992; ComponentLink3Description: LCSC Part URL; ComponentLink3URL: https://lcsc.com/product-detail/Ferrite-Beads_Murata-Electronics-Murata-Electronics-BLM21AG331SN1D_C88992.html
footprint FB-0805 (0805 (2012M) Ferrite)
pins: 1, 2

## BLM21AG471SN1D
designator FB?  Impedance @ Frequency: 470Ω@100MHz
Ferrite, 470Ω@100MHz, ±25%, 180mΩ, 700mA, SMD 0805; Manufacturer: Murata Electronics; Manufacturer Part Number: BLM21AG471SN1D; Package Size: 0805; JLCPCB Basic Part: No; JLCPCB Part Number: C397304; Supplier 1: LCSC; Category: Ferrite Beads; Supplier Part Number 1: C397304; Tolerance: ±25%; Rated Current: 700mA; DC Resistance: 180mΩ; RoHS: Yes; ComponentLink1Description: Datasheet; ComponentLink1URL: https://wmsc.lcsc.com/wmsc/upload/file/pdf/v2/lcsc/2304140030_Murata-Electronics-BLM21AG471SN1D_C397304.pdf; ComponentLink2Description: JLCPCB Part URL; ComponentLink2URL: https://jlcpcb.com/partdetail/C397304; ComponentLink3Description: LCSC Part URL; ComponentLink3URL: https://lcsc.com/product-detail/Ferrite-Beads_Murata-Electronics-Murata-Electronics-BLM21AG471SN1D_C397304.html
footprint FB-0805 (0805 (2012M) Ferrite)
pins: 1, 2

## BLM21AG601BH1D
designator FB?  Impedance @ Frequency: 600Ω@100MHz
Ferrite, 600Ω@100MHz, ±25%, 200mΩ, 700mA, SMD 0805; Manufacturer: Murata Electronics; Manufacturer Part Number: BLM21AG601BH1D; Package Size: 0805; JLCPCB Basic Part: No; JLCPCB Part Number: C524530; Supplier 1: LCSC; Category: Ferrite Beads; Supplier Part Number 1: C524530; Tolerance: ±25%; Rated Current: 700mA; DC Resistance: 200mΩ; RoHS: Yes; ComponentLink1Description: Datasheet; ComponentLink1URL: https://wmsc.lcsc.com/wmsc/upload/file/pdf/v2/lcsc/2007231106_Murata-Electronics-BLM21AG601BH1D_C524530.pdf; ComponentLink2Description: JLCPCB Part URL; ComponentLink2URL: https://jlcpcb.com/partdetail/C524530; ComponentLink3Description: LCSC Part URL; ComponentLink3URL: https://lcsc.com/product-detail/Ferrite-Beads_Murata-Electronics-Murata-Electronics-BLM21AG601BH1D_C524530.html
footprint FB-0805 (0805 (2012M) Ferrite)
pins: 1, 2

## BLM21AG601SH1D
designator FB?  Impedance @ Frequency: 600Ω@100MHz
Ferrite, 600Ω@100MHz, ±25%, 200mΩ, 700mA, SMD 0805; Manufacturer: Murata Electronics; Manufacturer Part Number: BLM21AG601SH1D; Package Size: 0805; JLCPCB Basic Part: No; JLCPCB Part Number: C437406; Supplier 1: LCSC; Category: Ferrite Beads; Supplier Part Number 1: C437406; Tolerance: ±25%; Rated Current: 700mA; DC Resistance: 200mΩ; RoHS: Yes; ComponentLink1Description: Datasheet; ComponentLink1URL: https://wmsc.lcsc.com/wmsc/upload/file/pdf/v2/lcsc/2304140030_Murata-Electronics-BLM21AG601SH1D_C437406.pdf; ComponentLink2Description: JLCPCB Part URL; ComponentLink2URL: https://jlcpcb.com/partdetail/C437406; ComponentLink3Description: LCSC Part URL; ComponentLink3URL: https://lcsc.com/product-detail/Ferrite-Beads_Murata-Electronics-Murata-Electronics-BLM21AG601SH1D_C437406.html
footprint FB-0805 (0805 (2012M) Ferrite)
pins: 1, 2

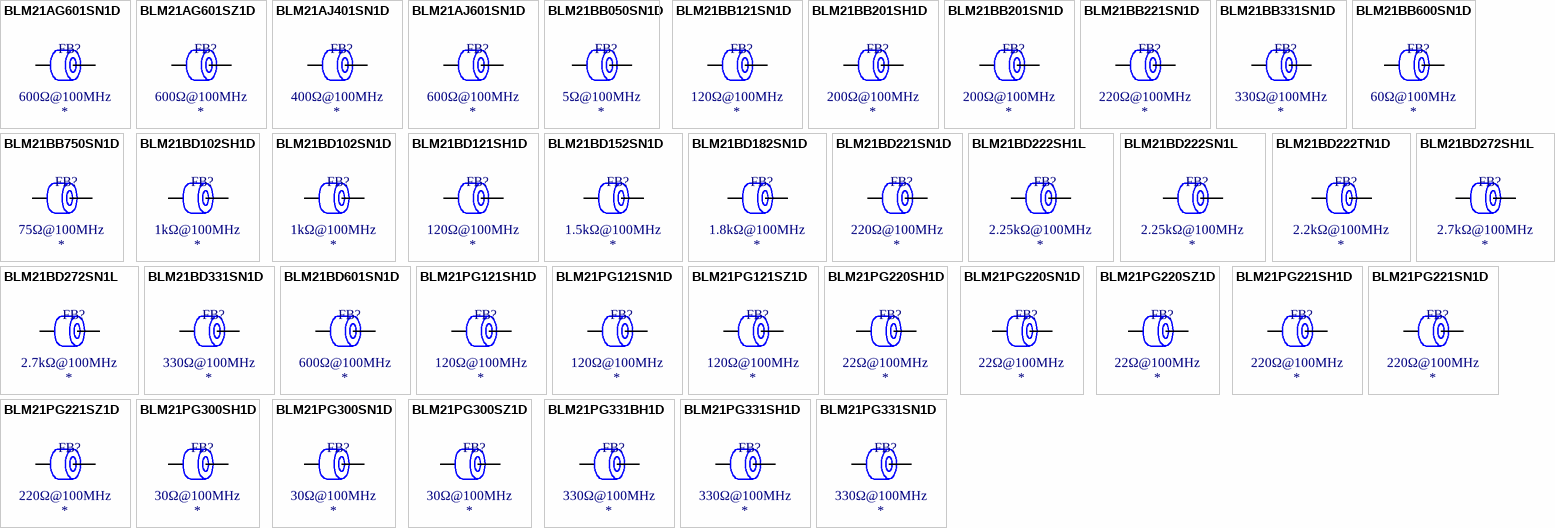
[diagram p1: symbols BLM21AG601SN1D to BLM21PG331SN1D]

## BLM21AG601SN1D
designator FB?  Impedance @ Frequency: 600Ω@100MHz
Ferrite, 600Ω@100MHz, ±25%, 200mΩ, 700mA, SMD 0805; Manufacturer: Murata Electronics; Manufacturer Part Number: BLM21AG601SN1D; Package Size: 0805; JLCPCB Basic Part: No; JLCPCB Part Number: C85837; Supplier 1: LCSC; Category: Ferrite Beads; Supplier Part Number 1: C85837; Tolerance: ±25%; Rated Current: 700mA; DC Resistance: 200mΩ; RoHS: Yes; ComponentLink1Description: Datasheet; ComponentLink1URL: https://wmsc.lcsc.com/wmsc/upload/file/pdf/v2/lcsc/2304140030_Murata-Electronics-BLM21AG601SN1D_C85837.pdf; ComponentLink2Description: JLCPCB Part URL; ComponentLink2URL: https://jlcpcb.com/partdetail/C85837; ComponentLink3Description: LCSC Part URL; ComponentLink3URL: https://lcsc.com/product-detail/Ferrite-Beads_Murata-Electronics-Murata-Electronics-BLM21AG601SN1D_C85837.html
footprint FB-0805 (0805 (2012M) Ferrite)
pins: 1, 2

## BLM21AG601SZ1D
designator FB?  Impedance @ Frequency: 600Ω@100MHz
Ferrite, 600Ω@100MHz, ±25%, 200mΩ, 700mA, SMD 0805; Manufacturer: Murata Electronics; Manufacturer Part Number: BLM21AG601SZ1D; Package Size: 0805; JLCPCB Basic Part: No; JLCPCB Part Number: C524531; Supplier 1: LCSC; Category: Ferrite Beads; Supplier Part Number 1: C524531; Tolerance: ±25%; Rated Current: 700mA; DC Resistance: 200mΩ; RoHS: Yes; ComponentLink1Description: Datasheet; ComponentLink1URL: https://wmsc.lcsc.com/wmsc/upload/file/pdf/v2/lcsc/2304140030_Murata-Electronics-BLM21AG601SZ1D_C524531.pdf; ComponentLink2Description: JLCPCB Part URL; ComponentLink2URL: https://jlcpcb.com/partdetail/C524531; ComponentLink3Description: LCSC Part URL; ComponentLink3URL: https://lcsc.com/product-detail/Ferrite-Beads_Murata-Electronics-Murata-Electronics-BLM21AG601SZ1D_C524531.html
footprint FB-0805 (0805 (2012M) Ferrite)
pins: 1, 2

## BLM21AJ401SN1D
designator FB?  Impedance @ Frequency: 400Ω@100MHz
Ferrite, 400Ω@100MHz, ±25%, 850mΩ, 200mA, SMD 0805; Manufacturer: Murata Electronics; Manufacturer Part Number: BLM21AJ401SN1D; Package Size: 0805; JLCPCB Basic Part: No; JLCPCB Part Number: C113033; Supplier 1: LCSC; Category: Ferrite Beads; Supplier Part Number 1: C113033; Tolerance: ±25%; Rated Current: 200mA; DC Resistance: 850mΩ; RoHS: Yes; ComponentLink1Description: Datasheet; ComponentLink1URL: https://wmsc.lcsc.com/wmsc/upload/file/pdf/v2/lcsc/2304140030_Murata-Electronics-BLM21AJ401SN1D_C113033.pdf; ComponentLink2Description: JLCPCB Part URL; ComponentLink2URL: https://jlcpcb.com/partdetail/C113033; ComponentLink3Description: LCSC Part URL; ComponentLink3URL: https://lcsc.com/product-detail/Ferrite-Beads_Murata-Electronics-Murata-Electronics-BLM21AJ401SN1D_C113033.html
footprint FB-0805 (0805 (2012M) Ferrite)
pins: 1, 2

## BLM21AJ601SN1D
designator FB?  Impedance @ Frequency: 600Ω@100MHz
Ferrite, 600Ω@100MHz, ±25%, 1.1Ω, 200mA, SMD 0805; Manufacturer: Murata Electronics; Manufacturer Part Number: BLM21AJ601SN1D; Package Size: 0805; JLCPCB Basic Part: No; JLCPCB Part Number: C113034; Supplier 1: LCSC; Category: Ferrite Beads; Supplier Part Number 1: C113034; Tolerance: ±25%; Rated Current: 200mA; DC Resistance: 1.1Ω; RoHS: Yes; ComponentLink1Description: Datasheet; ComponentLink1URL: https://wmsc.lcsc.com/wmsc/upload/file/pdf/v2/lcsc/1810201231_Murata-Electronics-BLM21AJ601SN1D_C113034.pdf; ComponentLink2Description: JLCPCB Part URL; ComponentLink2URL: https://jlcpcb.com/partdetail/C113034; ComponentLink3Description: LCSC Part URL; ComponentLink3URL: https://lcsc.com/product-detail/Ferrite-Beads_Murata-Electronics-Murata-Electronics-BLM21AJ601SN1D_C113034.html
footprint FB-0805 (0805 (2012M) Ferrite)
pins: 1, 2

## BLM21BB050SN1D
designator FB?  Impedance @ Frequency: 5Ω@100MHz
Ferrite, 5Ω@100MHz, ±25%, 20mΩ, 1A, SMD 0805; Manufacturer: Murata Electronics; Manufacturer Part Number: BLM21BB050SN1D; Package Size: 0805; JLCPCB Basic Part: No; JLCPCB Part Number: C113035; Supplier 1: LCSC; Category: Ferrite Beads; Supplier Part Number 1: C113035; Tolerance: ±25%; Rated Current: 1A; DC Resistance: 20mΩ; RoHS: Yes; ComponentLink1Description: Datasheet; ComponentLink1URL: https://wmsc.lcsc.com/wmsc/upload/file/pdf/v2/lcsc/2304140030_Murata-Electronics-BLM21BB050SN1D_C113035.pdf; ComponentLink2Description: JLCPCB Part URL; ComponentLink2URL: https://jlcpcb.com/partdetail/C113035; ComponentLink3Description: LCSC Part URL; ComponentLink3URL: https://lcsc.com/product-detail/Ferrite-Beads_Murata-Electronics-Murata-Electronics-BLM21BB050SN1D_C113035.html
footprint FB-0805 (0805 (2012M) Ferrite)
pins: 1, 2

## BLM21BB121SN1D
designator FB?  Impedance @ Frequency: 120Ω@100MHz
Ferrite, 120Ω@100MHz, ±25%, 190mΩ, 600mA, SMD 0805; Manufacturer: Murata Electronics; Manufacturer Part Number: BLM21BB121SN1D; Package Size: 0805; JLCPCB Basic Part: No; JLCPCB Part Number: C23568; Supplier 1: LCSC; Category: Ferrite Beads; Supplier Part Number 1: C23568; Tolerance: ±25%; Rated Current: 600mA; DC Resistance: 190mΩ; RoHS: Yes; ComponentLink1Description: Datasheet; ComponentLink1URL: https://wmsc.lcsc.com/wmsc/upload/file/pdf/v2/lcsc/1810201211_Murata-Electronics-BLM21BB121SN1D_C23568.pdf; ComponentLink2Description: JLCPCB Part URL; ComponentLink2URL: https://jlcpcb.com/partdetail/C23568; ComponentLink3Description: LCSC Part URL; ComponentLink3URL: https://lcsc.com/product-detail/Ferrite-Beads_Murata-Electronics-Murata-Electronics-BLM21BB121SN1D-_C23568.html
footprint FB-0805 (0805 (2012M) Ferrite)
pins: 1, 2

## BLM21BB201SH1D
designator FB?  Impedance @ Frequency: 200Ω@100MHz
Ferrite, 200Ω@100MHz, ±25%, 260mΩ, 500mA, SMD 0805; Manufacturer: Murata Electronics; Manufacturer Part Number: BLM21BB201SH1D; Package Size: 0805; JLCPCB Basic Part: No; JLCPCB Part Number: C237604; Supplier 1: LCSC; Category: Ferrite Beads; Supplier Part Number 1: C237604; Tolerance: ±25%; Rated Current: 500mA; DC Resistance: 260mΩ; RoHS: Yes; ComponentLink1Description: Datasheet; ComponentLink1URL: https://wmsc.lcsc.com/wmsc/upload/file/pdf/v2/lcsc/2304140030_Murata-Electronics-BLM21BB201SH1D_C237604.pdf; ComponentLink2Description: JLCPCB Part URL; ComponentLink2URL: https://jlcpcb.com/partdetail/C237604; ComponentLink3Description: LCSC Part URL; ComponentLink3URL: https://lcsc.com/product-detail/Ferrite-Beads_Murata-Electronics-Murata-Electronics-BLM21BB201SH1D_C237604.html
footprint FB-0805 (0805 (2012M) Ferrite)
pins: 1, 2

## BLM21BB201SN1D
designator FB?  Impedance @ Frequency: 200Ω@100MHz
Ferrite, 200Ω@100MHz, ±25%, 260mΩ, 500mA, SMD 0805; Manufacturer: Murata Electronics; Manufacturer Part Number: BLM21BB201SN1D; Package Size: 0805; JLCPCB Basic Part: No; JLCPCB Part Number: C437407; Supplier 1: LCSC; Category: Ferrite Beads; Supplier Part Number 1: C437407; Tolerance: ±25%; Rated Current: 500mA; DC Resistance: 260mΩ; RoHS: Yes; ComponentLink1Description: Datasheet; ComponentLink1URL: https://wmsc.lcsc.com/wmsc/upload/file/pdf/v2/lcsc/2304140030_Murata-Electronics-BLM21BB201SN1D_C437407.pdf; ComponentLink2Description: JLCPCB Part URL; ComponentLink2URL: https://jlcpcb.com/partdetail/C437407; ComponentLink3Description: LCSC Part URL; ComponentLink3URL: https://lcsc.com/product-detail/Ferrite-Beads_Murata-Electronics-Murata-Electronics-BLM21BB201SN1D_C437407.html
footprint FB-0805 (0805 (2012M) Ferrite)
pins: 1, 2

## BLM21BB221SN1D
designator FB?  Impedance @ Frequency: 220Ω@100MHz
Ferrite, 220Ω@100MHz, ±25%, 260mΩ, 500mA, SMD 0805; Manufacturer: Murata Electronics; Manufacturer Part Number: BLM21BB221SN1D; Package Size: 0805; JLCPCB Basic Part: No; JLCPCB Part Number: C341662; Supplier 1: LCSC; Category: Ferrite Beads; Supplier Part Number 1: C341662; Tolerance: ±25%; Rated Current: 500mA; DC Resistance: 260mΩ; RoHS: Yes; ComponentLink1Description: Datasheet; ComponentLink1URL: https://wmsc.lcsc.com/wmsc/upload/file/pdf/v2/lcsc/1912111437_Murata-Electronics-BLM21BB221SN1D_C341662.pdf; ComponentLink2Description: JLCPCB Part URL; ComponentLink2URL: https://jlcpcb.com/partdetail/C341662; ComponentLink3Description: LCSC Part URL; ComponentLink3URL: https://lcsc.com/product-detail/Ferrite-Beads_Murata-Electronics-Murata-Electronics-BLM21BB221SN1D_C341662.html
footprint FB-0805 (0805 (2012M) Ferrite)
pins: 1, 2

## BLM21BB331SN1D
designator FB?  Impedance @ Frequency: 330Ω@100MHz
Ferrite, 330Ω@100MHz, ±25%, 330mΩ, 400mA, SMD 0805; Manufacturer: Murata Electronics; Manufacturer Part Number: BLM21BB331SN1D; Package Size: 0805; JLCPCB Basic Part: No; JLCPCB Part Number: C711570; Supplier 1: LCSC; Category: Ferrite Beads; Supplier Part Number 1: C711570; Tolerance: ±25%; Rated Current: 400mA; DC Resistance: 330mΩ; RoHS: Yes; ComponentLink1Description: Datasheet; ComponentLink1URL: https://wmsc.lcsc.com/wmsc/upload/file/pdf/v2/lcsc/2009261436_Murata-Electronics-BLM21BB331SN1D_C711570.pdf; ComponentLink2Description: JLCPCB Part URL; ComponentLink2URL: https://jlcpcb.com/partdetail/C711570; ComponentLink3Description: LCSC Part URL; ComponentLink3URL: https://lcsc.com/product-detail/Ferrite-Beads_Murata-Electronics-Murata-Electronics-BLM21BB331SN1D_C711570.html
footprint FB-0805 (0805 (2012M) Ferrite)
pins: 1, 2

## BLM21BB600SN1D
designator FB?  Impedance @ Frequency: 60Ω@100MHz
Ferrite, 60Ω@100MHz, ±25%, 130mΩ, 800mA, SMD 0805; Manufacturer: Murata Electronics; Manufacturer Part Number: BLM21BB600SN1D; Package Size: 0805; JLCPCB Basic Part: No; JLCPCB Part Number: C118443; Supplier 1: LCSC; Category: Ferrite Beads; Supplier Part Number 1: C118443; Tolerance: ±25%; Rated Current: 800mA; DC Resistance: 130mΩ; RoHS: Yes; ComponentLink1Description: Datasheet; ComponentLink1URL: https://wmsc.lcsc.com/wmsc/upload/file/pdf/v2/lcsc/2304140030_Murata-Electronics-BLM21BB600SN1D_C118443.pdf; ComponentLink2Description: JLCPCB Part URL; ComponentLink2URL: https://jlcpcb.com/partdetail/C118443; ComponentLink3Description: LCSC Part URL; ComponentLink3URL: https://lcsc.com/product-detail/Ferrite-Beads_Murata-Electronics-Murata-Electronics-BLM21BB600SN1D_C118443.html
footprint FB-0805 (0805 (2012M) Ferrite)
pins: 1, 2

## BLM21BB750SN1D
designator FB?  Impedance @ Frequency: 75Ω@100MHz
Ferrite, 75Ω@100MHz, ±25%, 160mΩ, 700mA, SMD 0805; Manufacturer: Murata Electronics; Manufacturer Part Number: BLM21BB750SN1D; Package Size: 0805; JLCPCB Basic Part: No; JLCPCB Part Number: C710503; Supplier 1: LCSC; Category: Ferrite Beads; Supplier Part Number 1: C710503; Tolerance: ±25%; Rated Current: 700mA; DC Resistance: 160mΩ; RoHS: Yes; ComponentLink1Description: Datasheet; ComponentLink1URL: https://wmsc.lcsc.com/wmsc/upload/file/pdf/v2/lcsc/2304140030_Murata-Electronics-BLM21BB750SN1D_C710503.pdf; ComponentLink2Description: JLCPCB Part URL; ComponentLink2URL: https://jlcpcb.com/partdetail/C710503; ComponentLink3Description: LCSC Part URL; ComponentLink3URL: https://lcsc.com/product-detail/Ferrite-Beads_Murata-Electronics-Murata-Electronics-BLM21BB750SN1D_C710503.html
footprint FB-0805 (0805 (2012M) Ferrite)
pins: 1, 2

## BLM21BD102SH1D
designator FB?  Impedance @ Frequency: 1kΩ@100MHz
Ferrite, 1kΩ@100MHz, ±25%, 400mΩ, 250mA, SMD 0805; Manufacturer: Murata Electronics; Manufacturer Part Number: BLM21BD102SH1D; Package Size: 0805; JLCPCB Basic Part: No; JLCPCB Part Number: C437408; Supplier 1: LCSC; Category: Ferrite Beads; Supplier Part Number 1: C437408; Tolerance: ±25%; Rated Current: 250mA; DC Resistance: 400mΩ; RoHS: Yes; ComponentLink1Description: Datasheet; ComponentLink1URL: https://wmsc.lcsc.com/wmsc/upload/file/pdf/v2/lcsc/2304140030_Murata-Electronics-BLM21BD102SH1D_C437408.pdf; ComponentLink2Description: JLCPCB Part URL; ComponentLink2URL: https://jlcpcb.com/partdetail/C437408; ComponentLink3Description: LCSC Part URL; ComponentLink3URL: https://lcsc.com/product-detail/Ferrite-Beads_Murata-Electronics-Murata-Electronics-BLM21BD102SH1D_C437408.html
footprint FB-0805 (0805 (2012M) Ferrite)
pins: 1, 2

## BLM21BD102SN1D
designator FB?  Impedance @ Frequency: 1kΩ@100MHz
Ferrite, 1kΩ@100MHz, ±25%, 400mΩ, 250mA, SMD 0805; Manufacturer: Murata Electronics; Manufacturer Part Number: BLM21BD102SN1D; Package Size: 0805; JLCPCB Basic Part: No; JLCPCB Part Number: C37751; Supplier 1: LCSC; Category: Ferrite Beads; Supplier Part Number 1: C37751; Tolerance: ±25%; Rated Current: 250mA; DC Resistance: 400mΩ; RoHS: Yes; ComponentLink1Description: Datasheet; ComponentLink1URL: https://wmsc.lcsc.com/wmsc/upload/file/pdf/v2/lcsc/1810201223_Murata-Electronics-BLM21BD102SN1D_C37751.pdf; ComponentLink2Description: JLCPCB Part URL; ComponentLink2URL: https://jlcpcb.com/partdetail/C37751; ComponentLink3Description: LCSC Part URL; ComponentLink3URL: https://lcsc.com/product-detail/Ferrite-Beads_Murata-Electronics-Murata-Electronics-BLM21BD102SN1D_C37751.html
footprint FB-0805 (0805 (2012M) Ferrite)
pins: 1, 2

## BLM21BD121SH1D
designator FB?  Impedance @ Frequency: 120Ω@100MHz
Ferrite, 120Ω@100MHz, SMD 0805; Manufacturer: Murata Electronics; Manufacturer Part Number: BLM21BD121SH1D; Package Size: 0805; JLCPCB Basic Part: No; JLCPCB Part Number: C1235333; Supplier 1: LCSC; Category: Ferrite Beads; Supplier Part Number 1: C1235333; RoHS: Yes; ComponentLink1Description: Datasheet; ComponentLink2Description: JLCPCB Part URL; ComponentLink2URL: https://jlcpcb.com/partdetail/C1235333; ComponentLink3Description: LCSC Part URL; ComponentLink3URL: https://lcsc.com/product-detail/Ferrite-Beads_Murata-Electronics-Murata-Electronics-BLM21BD121SH1D_C1235333.html
pins: 1, 2

## BLM21BD152SN1D
designator FB?  Impedance @ Frequency: 1.5kΩ@100MHz
Ferrite, 1.5kΩ@100MHz, ±25%, 450mΩ, 250mA, SMD 0805; Manufacturer: Murata Electronics; Manufacturer Part Number: BLM21BD152SN1D; Package Size: 0805; JLCPCB Basic Part: No; JLCPCB Part Number: C413959; Supplier 1: LCSC; Category: Ferrite Beads; Supplier Part Number 1: C413959; Tolerance: ±25%; Rated Current: 250mA; DC Resistance: 450mΩ; RoHS: Yes; ComponentLink1Description: Datasheet; ComponentLink1URL: https://wmsc.lcsc.com/wmsc/upload/file/pdf/v2/lcsc/2304140030_Murata-Electronics-BLM21BD152SN1D_C413959.pdf; ComponentLink2Description: JLCPCB Part URL; ComponentLink2URL: https://jlcpcb.com/partdetail/C413959; ComponentLink3Description: LCSC Part URL; ComponentLink3URL: https://lcsc.com/product-detail/Ferrite-Beads_Murata-Electronics-Murata-Electronics-BLM21BD152SN1D_C413959.html
footprint FB-0805 (0805 (2012M) Ferrite)
pins: 1, 2